# EAGLE library part IRS2573DSPBF (library International_Rectifier_By_element14_Batch_1)
HID BALLAST CONTROL IC
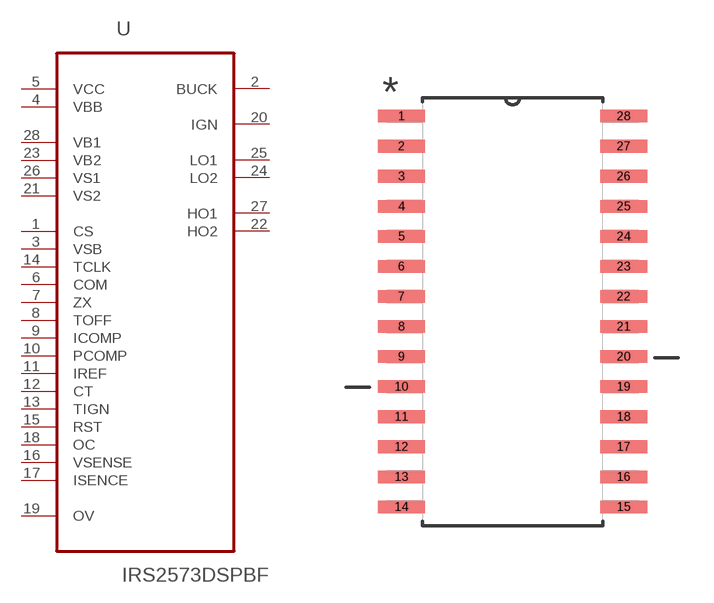
[diagram p104: symbol with the pads of SOIC127PX1032X265-28N; footprint SOIC127PX1032X265-28N]

Designator prefix U

## IRS2573DSPBF (MPN: IRS2573DSPBF; OC_FARNELL: 1866041; OC_NEWARK: 41T2874; PACKAGE: SOIC-28; SUPPLIER: INTERNATIONAL RECTIFIER)  [SOIC127PX1032X265-28N]
1  CS  in
2  BUCK  out
3  VSB  in
4  VBB  in
5  VCC  pwr
6  COM  in
7  ZX  in
8  TOFF  in
9  ICOMP  in
10  PCOMP  in
11  IREF  in
12  CT  in
13  TIGN  in
14  TCLK  in
15  RST  in
16  VSENSE  in
17  ISENCE  in
18  OC  in
19  OV  in
20  IGN  out
21  VS2  in
22  HO2  out
23  VB2  in
24  LO2  out
25  LO1  out
26  VS1  in
27  HO1  out
28  VB1  in

## Footprint SOIC127PX1032X265-28N (pad centres in mm)
smd 1.981 x 0.533: 1 -4.699,8.255; 2 -4.699,6.985; 3 -4.699,5.715; 4 -4.699,4.445; 5 -4.699,3.175; 6 -4.699,1.905; 7 -4.699,0.635; 8 -4.699,-0.635; 9 -4.699,-1.905; 10 -4.699,-3.175; 11 -4.699,-4.445; 12 -4.699,-5.715; 13 -4.699,-6.985; 14 -4.699,-8.255; 15 4.699,-8.255; 16 4.699,-6.985; 17 4.699,-5.715; 18 4.699,-4.445; 19 4.699,-3.175; 20 4.699,-1.905; 21 4.699,-0.635; 22 4.699,0.635; 23 4.699,1.905; 24 4.699,3.175; 25 4.699,4.445; 26 4.699,5.715; 27 4.699,6.985; 28 4.699,8.255